# Altium footprint library MyLibrary.PcbLib: 365 footprints (part 20 of 23)
Each footprint in its own frame and in the unit in brackets; x right, y up, seen from the top. Pads: shape width x height; smd on the part's side, far side on the other; paste and mask are expansions set on the pad; w line width, h text height; cw(c..) or ccw(c..) is an arc to the next point about the centre after c.
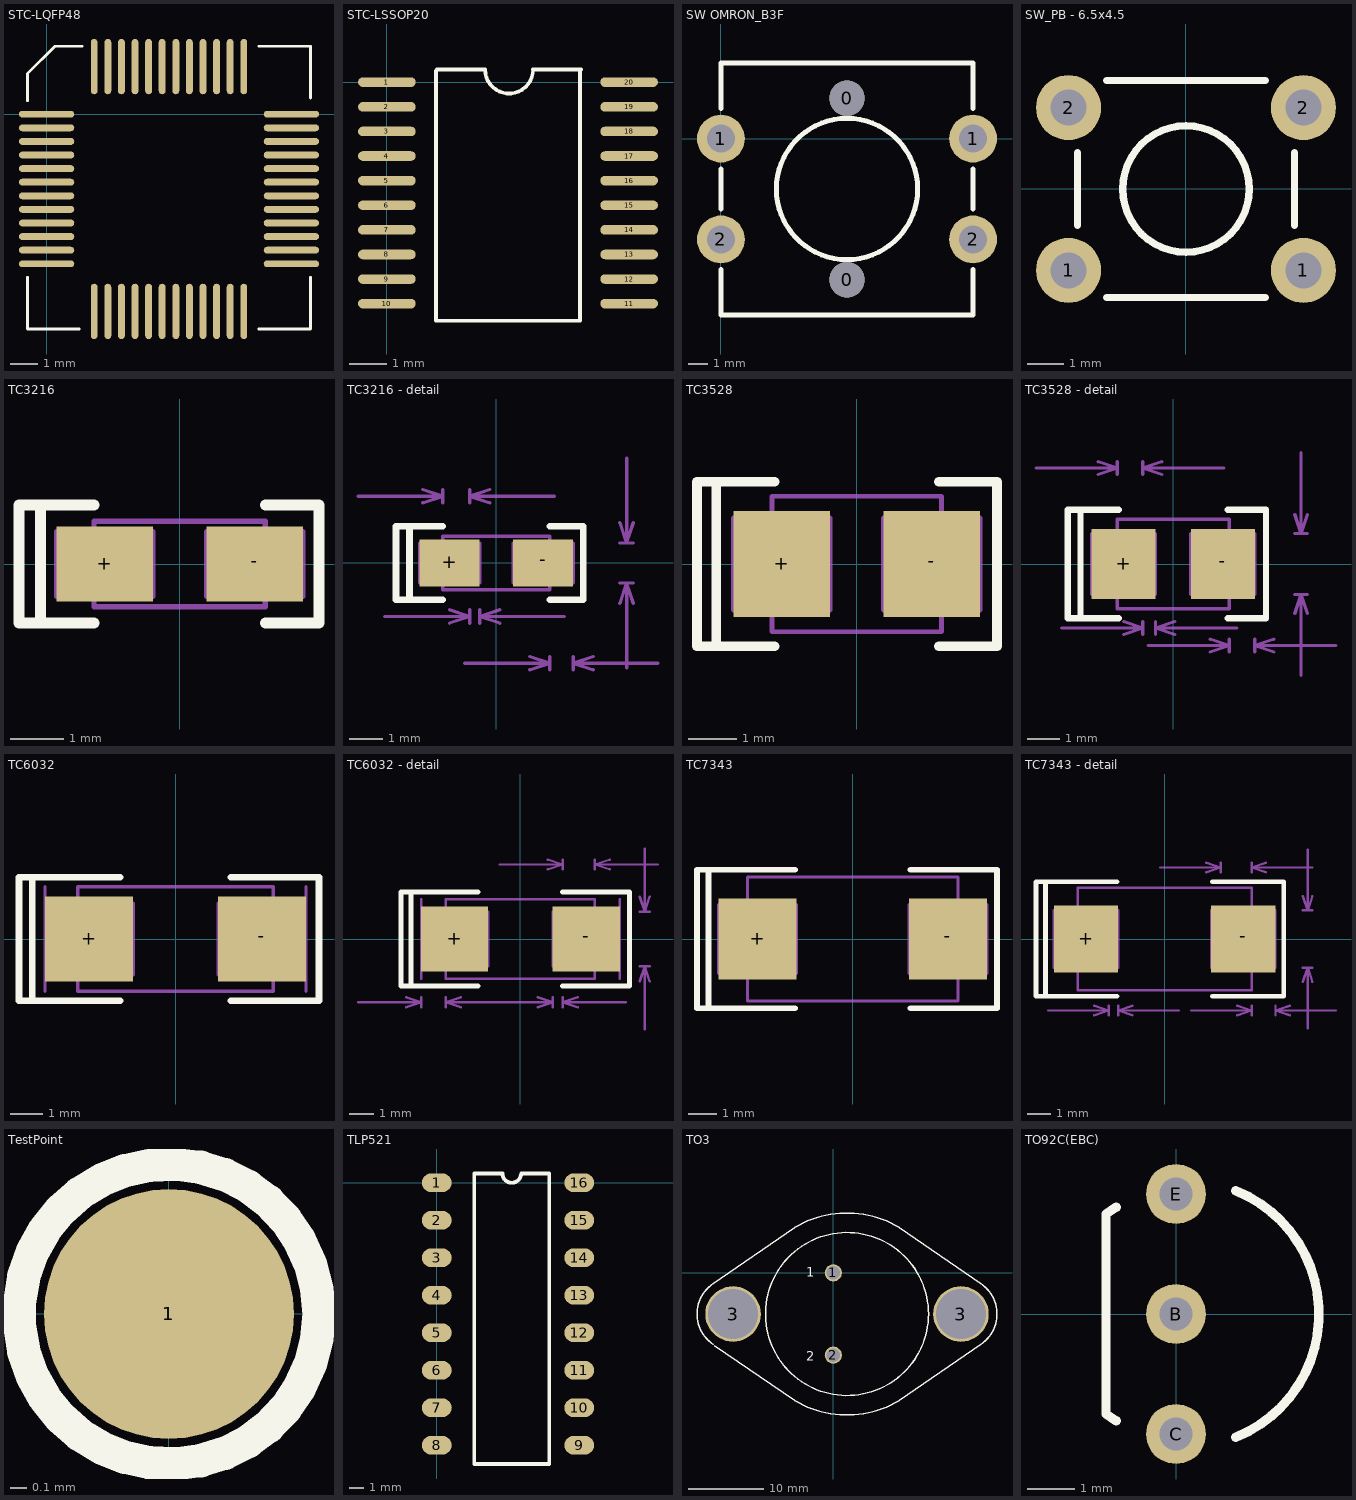
[diagram p19: the footprints below, top view; thin cyan lines are the x and y axes]

## STC-LQFP48 [mil]
pads (48):
  oval 80x10 smd: 1(0,0) 2(0,-19.68) 3(0,-39.37) 4(0,-59.06) 5(0,-78.74) 6(0,-98.43) 7(0,-118.11) 8(0,-137.8) 9(0,-157.48) 10(0,-177.17) 11(0,-196.85) 12(0,-216.54) 25(354.33,-216.54) 26(354.33,-196.85) 27(354.33,-177.17) 28(354.33,-157.48) 29(354.33,-137.8) 30(354.33,-118.11) 31(354.33,-98.43) 32(354.33,-78.74) 33(354.33,-59.06) 34(354.33,-39.37) 35(354.33,-19.68) 36(354.33,0)
  oval 10x80 smd: 13(68.9,-285.43) 14(88.58,-285.43) 15(108.27,-285.43) 16(127.95,-285.43) 17(147.64,-285.43) 18(167.32,-285.43) 19(187.01,-285.43) 20(206.69,-285.43) 21(226.38,-285.43) 22(246.06,-285.43) 23(265.75,-285.43) 24(285.43,-285.43) 37(285.43,68.9) 38(265.75,68.9) 39(246.06,68.9) 40(226.38,68.9) 41(206.69,68.9) 42(187.01,68.9) 43(167.32,68.9) 44(147.64,68.9) 45(127.95,68.9) 46(108.27,68.9) 47(88.58,68.9) 48(68.9,68.9)
Top Overlay:
  lines w3.94: -27.56,-236.22 -27.56,-311.02 47.24,-311.02 ; -27.56,19.68 -27.56,59.06 11.81,98.43 51.18,98.43 ; 307.09,-311.02 381.89,-311.02 381.89,-236.22 ; 307.09,98.43 381.89,98.43 381.89,23.62

## STC-LSSOP20 [mil]
pads (20):
  oval 60x10 smd: 1(0,0) 2(0,-25.59) 3(0,-51.18) 4(0,-76.77) 5(0,-102.36) 6(0,-127.95) 7(0,-153.54) 8(0,-179.13) 9(0,-204.72) 10(0,-230.31) 11(251.97,-230.31) 12(251.97,-204.72) 13(251.97,-179.13) 14(251.97,-153.54) 15(251.97,-127.95) 16(251.97,-102.36) 17(251.97,-76.77) 18(251.97,-51.18) 19(251.97,-25.59) 20(251.97,0)
Top Overlay:
  lines w3.94: 51.18,11.81 51.18,-248.03 200.79,-248.03 200.79,11.81 ; 52.13,13.19 102.13,13.19 ccw(c127.13,13.19) 152.13,13.19 202.13,13.19

## SW OMRON_B3F [mil]
pads (6):
  round 70 hole 70: 0(250,-280) 0(250,80)
  round 95 hole 55: 1(0,0) 1(500,0) 2(0,-200) 2(500,-200)
Top Overlay:
  circle w10: c250,-100 r140
  lines w10: 0,-260 0,-350 500,-350 500,-260 ; 0,-140 0,-60 ; 0,60 0,150 500,150 500,60 ; 500,-140 500,-60

## SW_PB - 6.5x4.5 [mm]
pads (4):
  round 1.8 hole 1: 1(-3.25,-2.25) 1(3.25,-2.25) 2(-3.25,2.25) 2(3.25,2.25)
Top Overlay:
  circle w0.2: c0,0 r1.75
  lines w0.2: -3,-1 -3,1 ; -2.2,-3 2.2,-3 ; -2.2,3 2.2,3 ; 3,-1 3,1

## TC3216 [mm]
pads (2):
  rect 1.8x1.4 smd: +(-1.4,0) -(1.4,0)
Top Overlay:
  lines w0.2: -1.6,-1.1 -2.6,-1.1 ; -1.6,1.1 -2.6,1.1 ; 1.6,-1.1 2.6,-1.1 2.6,1.1 1.6,1.1 ; -2.6,-1.1 -2.6,1.1 ; -2.6,-1.1 -3,-1.1 -3,1.1 -2.6,1.1
Mechanical 1:
  lines w0.1: -2.3,-0.6 -2.3,0.6 ; -1.6,-0.6 -0.8,-0.6 -0.8,0.6 -1.6,0.6 ; -0.5,-0.6 -0.5,0.6 ; 0.5,-0.6 0.5,0.6 ; 1.6,-0.6 0.8,-0.6 0.8,0.6 1.6,0.6 ; 2.3,-0.6 2.3,0.6 ; -1.6,-0.8 -1.6,0.8 1.6,0.8 1.6,-0.8 -1.6,-0.8

## TC3216 - detail [mm]
pads (2):
  rect 1.8x1.4 smd: +(-1.4,0) -(1.4,0)
Top Overlay:
  lines w0.2: -1.6,-1.1 -2.6,-1.1 ; -1.6,1.1 -2.6,1.1 ; 1.6,-1.1 2.6,-1.1 2.6,1.1 1.6,1.1 ; -2.6,-1.1 -3,-1.1 -3,1.1 -2.6,1.1 ; -2.6,-1.1 -2.6,1.1
Mechanical 1:
  lines w0.1: -4.14,2 -1.6,2 ; -3.34,-1.6 -0.8,-1.6 ; -2.3,-0.6 -2.3,0.6 ; -2.2,1.8 -1.6,2 ; -2.2,2.2 -1.6,2 ; -1.6,-0.6 -0.8,-0.6 -0.8,0.6 -1.6,0.6 ; -1.6,1.8 -1.6,2.2 ; -1.4,-1.8 -0.8,-1.6 ; -1.4,-1.4 -0.8,-1.6 ; -0.94,-3 1.6,-3 ; -0.8,-1.8 -0.8,-1.4 ; -0.8,1.8 -0.8,2.2 ; -0.5,-1.8 -0.5,-1.4 ; -0.5,-0.6 -0.5,0.6 ; -0.2,1.8 -0.8,2 ; -0.2,2.2 -0.8,2 ; 0.1,-1.8 -0.5,-1.6 ; 0.1,-1.4 -0.5,-1.6 ; 0.5,-0.6 0.5,0.6 ; 1,-3.2 1.6,-3 ; 1,-2.8 1.6,-3 ; 1.6,-3.2 1.6,-2.8 ; 1.6,-0.6 0.8,-0.6 0.8,0.6 1.6,0.6 ; 1.74,2 -0.8,2 ; 2.04,-1.6 -0.5,-1.6 ; 2.3,-3.2 2.3,-2.8 ; 2.3,-0.6 2.3,0.6 ; 2.9,-3.2 2.3,-3 ; 2.9,-2.8 2.3,-3 ; 3.7,-1.2 3.9,-0.6 ; 3.7,-0.6 4.1,-0.6 ; 3.7,0.6 4.1,0.6 ; 3.7,1.2 3.9,0.6 ; 3.9,-3.14 3.9,-0.6 ; 3.9,3.14 3.9,0.6 ; 4.1,-1.2 3.9,-0.6 ; 4.1,1.2 3.9,0.6 ; 4.84,-3 2.3,-3 ; -1.6,-0.8 1.6,-0.8 1.6,0.8 -1.6,0.8 -1.6,-0.8
  text "0.8 (mm)" at -2.9,2.5 h0.6
  text "1.2 (mm)" at 5,-2 h0.6
  text "0.3 (mm)" at -2.6,-2.5 h0.6
  text "0.7 (mm)" at -0.1,-3.95 h0.6

## TC3528 [mm]
pads (2):
  rect 2x2.2 smd: +(-1.55,0) -(1.55,0)
Top Overlay:
  lines w0.2: -1.7,-1.7 -2.9,-1.7 ; -1.7,1.7 -2.9,1.7 ; 1.7,-1.7 2.9,-1.7 2.9,1.7 1.7,1.7 ; -2.9,-1.7 -3.3,-1.7 -3.3,1.7 -2.9,1.7 ; -2.9,-1.7 -2.9,1.7
Mechanical 1:
  lines w0.1: -2.55,-0.95 -2.55,0.95 ; -1.75,-0.95 -0.95,-0.95 -0.95,0.95 -1.75,0.95 ; -0.55,-0.95 -0.55,0.95 ; 0.55,-0.95 0.55,0.95 ; 1.75,-0.95 0.95,-0.95 0.95,0.95 1.75,0.95 ; 2.55,-0.95 2.55,0.95 ; -1.75,-1.4 -1.75,1.4 1.75,1.4 1.75,-1.4 -1.75,-1.4

## TC3528 - detail [mm]
pads (2):
  rect 2x2.2 smd: +(-1.55,0) -(1.55,0)
Top Overlay:
  lines w0.2: -1.7,-1.7 -2.9,-1.7 ; -1.7,1.7 -2.9,1.7 ; 1.7,-1.7 2.9,-1.7 2.9,1.7 1.7,1.7 ; -2.9,-1.7 -3.3,-1.7 -3.3,1.7 -2.9,1.7 ; -2.9,-1.7 -2.9,1.7
Mechanical 1:
  lines w0.1: -4.29,3 -1.75,3 ; -3.49,-2 -0.95,-2 ; -2.55,-0.95 -2.55,0.95 ; -2.35,2.8 -1.75,3 ; -2.35,3.2 -1.75,3 ; -1.75,-0.95 -0.95,-0.95 -0.95,0.95 -1.75,0.95 ; -1.75,2.8 -1.75,3.2 ; -1.55,-2.2 -0.95,-2 ; -1.55,-1.8 -0.95,-2 ; -0.95,-2.2 -0.95,-1.8 ; -0.95,2.8 -0.95,3.2 ; -0.79,-2.55 1.75,-2.55 ; -0.55,-2.2 -0.55,-1.8 ; -0.55,-0.95 -0.55,0.95 ; -0.35,2.8 -0.95,3 ; -0.35,3.2 -0.95,3 ; 0.05,-2.2 -0.55,-2 ; 0.05,-1.8 -0.55,-2 ; 0.55,-0.95 0.55,0.95 ; 1.15,-2.75 1.75,-2.55 ; 1.15,-2.35 1.75,-2.55 ; 1.59,3 -0.95,3 ; 1.75,-2.75 1.75,-2.35 ; 1.75,-0.95 0.95,-0.95 0.95,0.95 1.75,0.95 ; 1.99,-2 -0.55,-2 ; 2.55,-2.75 2.55,-2.35 ; 2.55,-0.95 2.55,0.95 ; 3.15,-2.75 2.55,-2.55 ; 3.15,-2.35 2.55,-2.55 ; 3.8,-1.55 4,-0.95 ; 3.8,-0.95 4.2,-0.95 ; 3.8,0.95 4.2,0.95 ; 3.8,1.55 4,0.95 ; 4,-3.49 4,-0.95 ; 4,3.49 4,0.95 ; 4.2,-1.55 4,-0.95 ; 4.2,1.55 4,0.95 ; 5.09,-2.55 2.55,-2.55 ; -1.75,-1.4 -1.75,1.4 1.75,1.4 1.75,-1.4 -1.75,-1.4
  text "0.8 (mm)" at -3.4,3.45 h0.6
  text "1.9 (mm)" at 4.3,3.651 h0.6
  text "0.4 (mm)" at -7.9,-2.3 h0.6
  text "0.8 (mm)" at 5.5,-2.75 h0.6

## TC6032 [mm]
pads (2):
  rect 2.7x2.6 smd: +(-2.65,0) -(2.65,0)
Top Overlay:
  lines w0.2: -1.7,-1.9 -4.4,-1.9 ; -1.7,1.9 -4.4,1.9 ; 1.7,-1.9 4.4,-1.9 4.4,1.9 1.7,1.9 ; -4.4,-1.9 -4.8,-1.9 -4.8,1.9 -4.4,1.9 ; -4.4,-1.9 -4.4,1.9
Mechanical 1:
  lines w0.1: -4,-1.6 -4,1.6 ; -3,-1.1 -1.7,-1.1 -1.7,1.1 -3,1.1 ; -1.3,-1.1 -1.3,1.1 ; 1.3,-1.1 1.3,1.1 ; 3,-1.1 1.7,-1.1 1.7,1.1 3,1.1 ; 4,-1.6 4,1.6 ; -3,-1.6 3,-1.6 3,1.6 -3,1.6 -3,-1.6

## TC6032 - detail [mm]
pads (2):
  rect 2.7x2.6 smd: +(-2.65,0) -(2.65,0)
Top Overlay:
  lines w0.2: -1.7,-1.9 -4.4,-1.9 ; -1.7,1.9 -4.4,1.9 ; 1.7,-1.9 4.4,-1.9 4.4,1.9 1.7,1.9 ; -4.4,-1.9 -4.4,1.9 ; -4.4,-1.9 -4.8,-1.9 -4.8,1.9 -4.4,1.9
Mechanical 1:
  lines w0.1: -6.54,-2.55 -4,-2.55 ; -4.6,-2.75 -4,-2.55 ; -4.6,-2.35 -4,-2.55 ; -4,-2.75 -4,-2.35 ; -4,-1.6 -4,1.6 ; -3,-2.75 -3,-2.35 ; -3,-1.1 -1.7,-1.1 -1.7,1.1 -3,1.1 ; -2.4,-2.75 -3,-2.55 ; -2.4,-2.35 -3,-2.55 ; -1.3,-1.1 -1.3,1.1 ; -1.24,-2.55 1.3,-2.55 ; -0.84,3 1.7,3 ; -0.46,-2.55 -3,-2.55 ; 0.7,-2.75 1.3,-2.55 ; 0.7,-2.35 1.3,-2.55 ; 1.1,2.8 1.7,3 ; 1.1,3.2 1.7,3 ; 1.3,-2.75 1.3,-2.35 ; 1.3,-1.1 1.3,1.1 ; 1.7,-2.75 1.7,-2.35 ; 1.7,2.8 1.7,3.2 ; 2.3,-2.75 1.7,-2.55 ; 2.3,-2.35 1.7,-2.55 ; 3,-1.1 1.7,-1.1 1.7,1.1 3,1.1 ; 3,2.8 3,3.2 ; 3.6,2.8 3,3 ; 3.6,3.2 3,3 ; 4,-1.6 4,1.6 ; 4.24,-2.55 1.7,-2.55 ; 4.8,-1.7 5,-1.1 ; 4.8,-1.1 5.2,-1.1 ; 4.8,1.1 5.2,1.1 ; 4.8,1.7 5,1.1 ; 5,-3.64 5,-1.1 ; 5,3.64 5,1.1 ; 5.2,-1.7 5,-1.1 ; 5.2,1.7 5,1.1 ; 5.54,3 3,3 ; -3,-1.6 -3,1.6 3,1.6 3,-1.6 -3,-1.6
  text "0.4 (mm)" at -0.5,-3.7 h0.6
  text "1 (mm)" at -5,-3.7 h0.6
  text "2.2 (mm)" at 5.2,3.75 h0.6
  text "1.3 (mm)" at 5.8,2.8 h0.6

## TC7343 [mm]
pads (2):
  rect 2.7x2.8 smd: +(-3.3,0) -(3.3,0)
Top Overlay:
  lines w0.2: -2,-2.4 -5,-2.4 ; -2,2.4 -5,2.4 ; 2,-2.4 5,-2.4 5,2.4 2,2.4 ; -5,-2.4 -5.4,-2.4 -5.4,2.4 -5,2.4 ; -5,-2.4 -5,2.4
Mechanical 1:
  lines w0.1: -4.65,-1.2 -4.65,1.2 ; -3.65,-1.2 -2.35,-1.2 -2.35,1.2 -3.65,1.2 ; -1.95,-1.2 -1.95,1.2 ; 1.95,-1.2 1.95,1.2 ; 3.65,-1.2 2.35,-1.2 2.35,1.2 3.65,1.2 ; 4.65,-1.2 4.65,1.2 ; -3.65,-2.15 -3.65,2.15 3.65,2.15 3.65,-2.15 -3.65,-2.15

## TC7343 - detail [mm]
pads (2):
  rect 2.7x2.8 smd: +(-3.3,0) -(3.3,0)
Top Overlay:
  lines w0.2: -2,-2.4 -5,-2.4 ; -2,2.4 -5,2.4 ; 2,-2.4 5,-2.4 5,2.4 2,2.4 ; -5,-2.4 -5,2.4 ; -5,-2.4 -5.4,-2.4 -5.4,2.4 -5,2.4
Mechanical 1:
  lines w0.1: -4.89,-3 -2.35,-3 ; -4.65,-1.2 -4.65,1.2 ; -3.65,-1.2 -2.35,-1.2 -2.35,1.2 -3.65,1.2 ; -2.95,-3.2 -2.35,-3 ; -2.95,-2.8 -2.35,-3 ; -2.35,-3.2 -2.35,-2.8 ; -1.95,-3.2 -1.95,-2.8 ; -1.95,-1.2 -1.95,1.2 ; -1.35,-3.2 -1.95,-3 ; -1.35,-2.8 -1.95,-3 ; -0.19,3 2.35,3 ; 0.59,-3 -1.95,-3 ; 1.11,-3 3.65,-3 ; 1.75,2.8 2.35,3 ; 1.75,3.2 2.35,3 ; 1.95,-1.2 1.95,1.2 ; 2.35,2.8 2.35,3.2 ; 3.05,-3.2 3.65,-3 ; 3.05,-2.8 3.65,-3 ; 3.65,-3.2 3.65,-2.8 ; 3.65,-1.2 2.35,-1.2 2.35,1.2 3.65,1.2 ; 3.65,2.8 3.65,3.2 ; 4.25,2.8 3.65,3 ; 4.25,3.2 3.65,3 ; 4.65,-3.2 4.65,-2.8 ; 4.65,-1.2 4.65,1.2 ; 5.25,-3.2 4.65,-3 ; 5.25,-2.8 4.65,-3 ; 5.8,-1.8 6,-1.2 ; 5.8,-1.2 6.2,-1.2 ; 5.8,1.2 6.2,1.2 ; 5.8,1.8 6,1.2 ; 6,-3.74 6,-1.2 ; 6,3.74 6,1.2 ; 6.19,3 3.65,3 ; 6.2,-1.8 6,-1.2 ; 6.2,1.8 6,1.2 ; 7.19,-3 4.65,-3 ; -3.65,-2.15 3.65,-2.15 3.65,2.15 -3.65,2.15 -3.65,-2.15
  text "1 (mm)" at 2.425,-4 h0.6
  text "0.4 (mm)" at -4.175,-4 h0.6
  text "2.4 (mm)" at 7,-2.4 h0.6
  text "1.3 (mm)" at 1.2,3.4 h0.6

## TestPoint [mm]
pads (1):
  round 1.5 smd: 1(0,0)
Top Overlay:
  circle w0.2: c0,0 r0.9

## TLP521 [mil]
pads (16):
  oval 80x50 smd: 1(0,0) 2(0,-100) 3(0,-200) 4(0,-300) 5(0,-400) 6(0,-500) 7(0,-600) 8(0,-700) 9(380,-700) 10(380,-600) 11(380,-500) 12(380,-400) 13(380,-300) 14(380,-200) 15(380,-100) 16(380,0)
Top Overlay:
  lines w10: 100,-750 100,25 175,25 ccw(c200,25) 225,25 300,25 300,-750 100,-750

## TO3 [mil]
pads (4):
  round 90 hole 70: 1(0,0) 2(0,-430)
  round 290 hole 262: 3(-523.5,-215) 3(666.5,-215)
Top Overlay:
  circle w7.87: c71.5,-215 r425.69
  lines w7.87: -628.5,-56.67 -203.5,235 ; -627.34,-373.9 cw(c-520.17,-215) -627.34,-56.1 ; -620.17,-381.67 -203.5,-665 ; -200.18,-667.16 ccw(c71.5,-215) 343.18,-667.16 ; -200.18,237.16 cw(c71.5,-215) 343.18,237.16 ; 346.5,-665 771.5,-373.33 ; 346.5,235 771.5,-56.67 ; 770.34,-373.9 ccw(c663.17,-215) 770.34,-56.1
  text "1" at -140,-20 h50
  text "2" at -140,-460 h50

## TO92C(EBC) [mm]
pads (3):
  round 1.27 hole 0.7: B(0,0) C(0,-2.54) E(0,2.54)
Top Overlay:
  lines w0.2: -1.263,-2.263 -1.482,-2.117 -1.482,2.117 -1.263,2.263 ; 1.266,-2.61 ccw(c0.212,0) 1.266,2.61